# Altium footprint library PcbLib1.PcbLib: 29 footprints (part 2 of 2)
Each footprint in its own frame and in the unit in brackets; x right, y up, seen from the top. Pads: shape width x height; smd on the part's side, far side on the other; paste and mask are expansions set on the pad; w line width, h text height; cw(c..) or ccw(c..) is an arc to the next point about the centre after c.
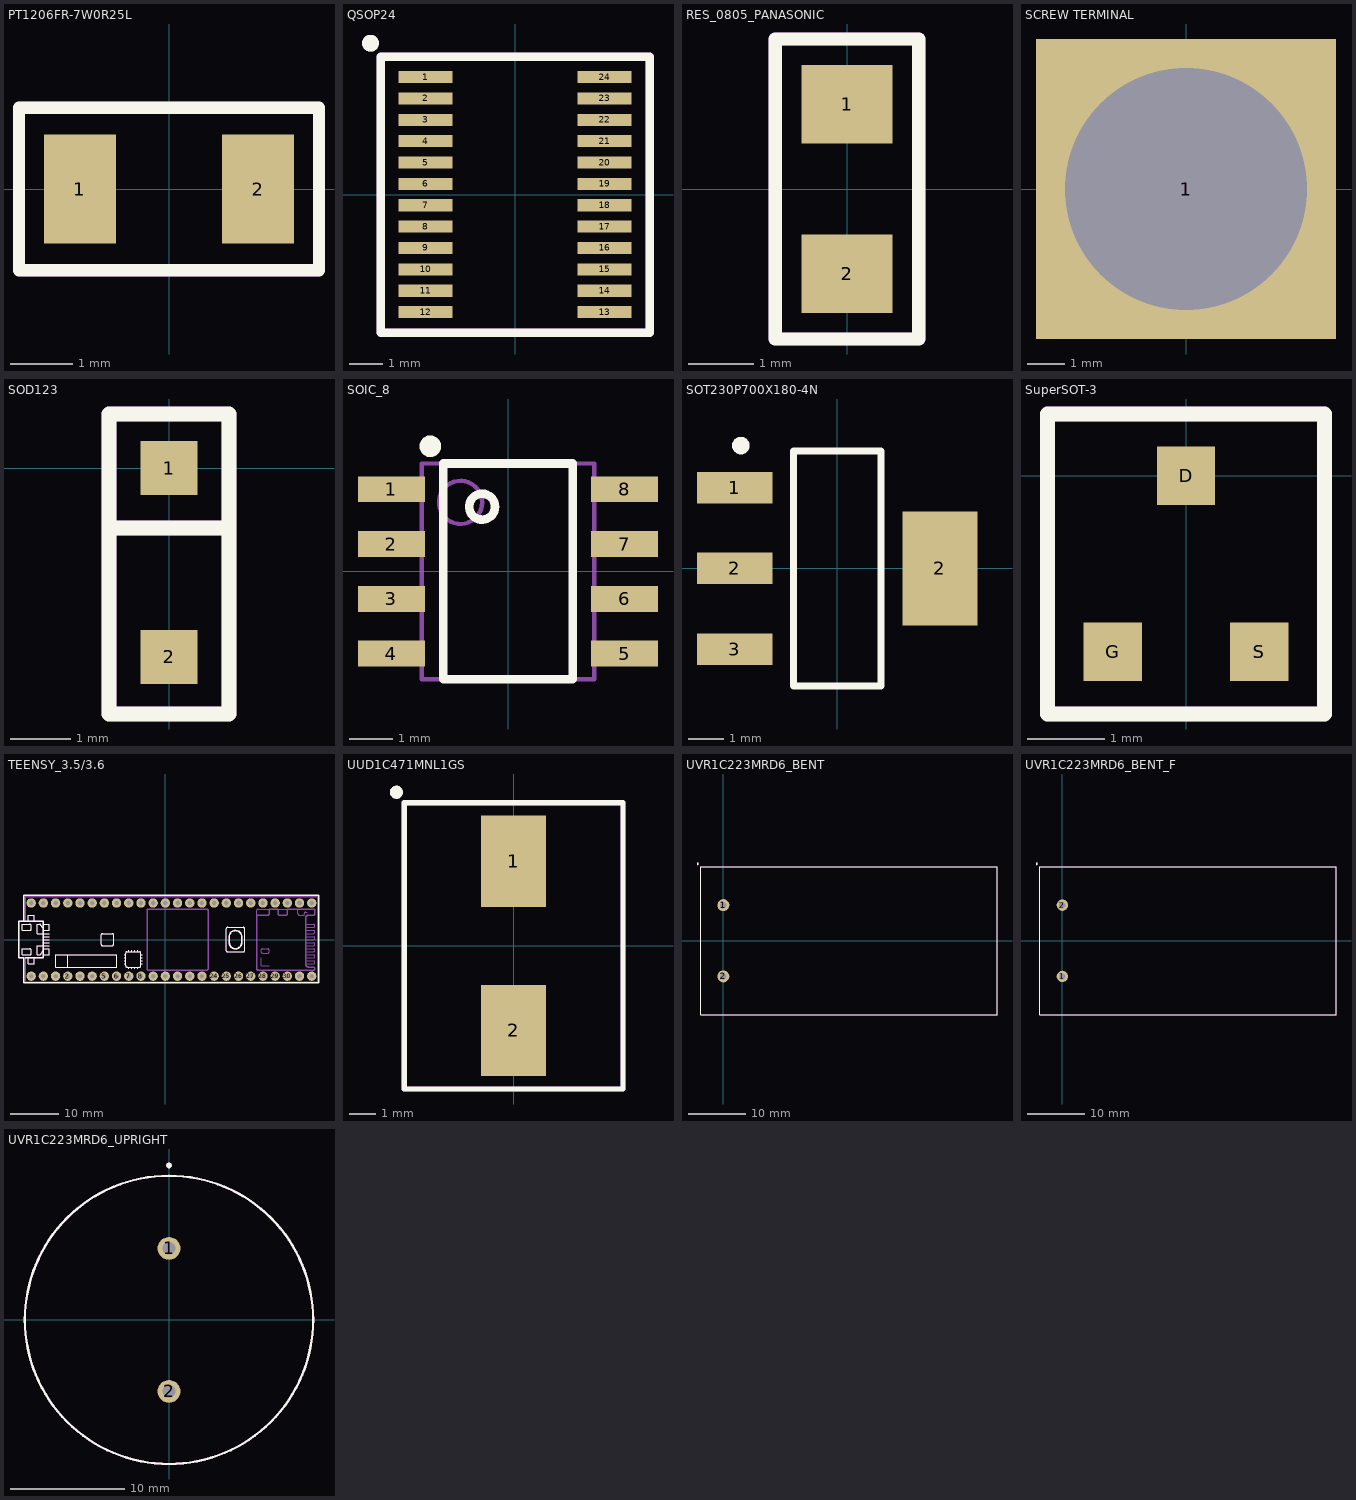
[diagram p1: the footprints below, top view; thin cyan lines are the x and y axes]

## PT1206FR-7W0R25L [mm]
height 0.55
pads (2):
  rect 1.15x1.75 smd mask+0.06: 1(-1.425,0) 2(1.425,0)
Top Overlay:
  lines w0.2: -2.4,-1.3 -2.4,1.3 2.4,1.3 2.4,-1.3 -2.4,-1.3
Mechanical 16:
  lines w0.2: -2.4,-1.3 -2.4,1.3 2.4,1.3 2.4,-1.3 -2.4,-1.3
  text ".Designator" at -1.246,-0.413 h1
3D body "PT1206FR-7W0R25L.step": height 0.55, standoff 0, extent -1.6,-0.85 1.6,0.85

## QSOP24 [mm]
pads (24):
  rect 1.6x0.36 smd mask+0.06: 1(-2.66,3.492) 2(-2.66,2.857) 3(-2.66,2.222) 4(-2.66,1.587) 5(-2.66,0.953) 6(-2.66,0.318) 7(-2.66,-0.318) 8(-2.66,-0.953) 9(-2.66,-1.587) 10(-2.66,-2.222) 11(-2.66,-2.857) 12(-2.66,-3.492) 13(2.66,-3.492) 14(2.66,-2.857) 15(2.66,-2.222) 16(2.66,-1.587) 17(2.66,-0.953) 18(2.66,-0.318) 19(2.66,0.318) 20(2.66,0.953) 21(2.66,1.587) 22(2.66,2.222) 23(2.66,2.857) 24(2.66,3.492)
Top Overlay:
  circle w0.25: c-4.3,4.5 r0.125
  lines w0.254: -4,-4.1 4,-4.1 4,4.1 -4,4.1 -4,-4.1
Mechanical 16:
  circle w0.25: c-4.3,4.5 r0.125
  lines w0.254: -4,-4.1 4,-4.1 4,4.1 -4,4.1 -4,-4.1
  text ".Designator" at -1.346,-0.538 h1.52

## RES_0805_PANASONIC [mm]
pads (2):
  rect 1.4x1.2 smd mask+0.06: 1(0,1.3) 2(0,-1.3)
Top Overlay:
  lines w0.2: -1.1,-2.3 -1.1,2.3 1.1,2.3 1.1,-2.3 -1.1,-2.3
Mechanical 16:
  lines w0.2: -1.1,-2.3 -1.1,2.3 1.1,2.3 1.1,-2.3 -1.1,-2.3
  text ".Designator" at 0.513,-0.946 h1

## SCREW TERMINAL [mm]
pads (1):
  rect 8x8 hole 6.45 mask+0.06: 1(0,0)

## SOD123 [mm]
pads (2):
  rect 0.95x0.9 smd mask+0.06: 1(0,0) 2(0,-3.15)
Top Overlay:
  lines w0.254: -0.9,-1 0.9,-1 ; -1,-4.1 -1,0.9 1,0.9 1,-4.1 -1,-4.1
Mechanical 16:
  lines w0.254: -0.9,-1 0.9,-1 ; -1,-4.1 -1,0.9 1,0.9 1,-4.1 -1,-4.1
  text ".Designator" at 0.413,-3.346 h1

## SOIC_8 [mm] "SOIC, 8-Leads, Body 4.91x3.90mm, Pitch 1.27mm, IPC Medium Density"
height 1.75
pads (8):
  rect 1.55x0.6 smd mask+0.06: 1(-2.7,1.905) 2(-2.7,0.635) 3(-2.7,-0.635) 4(-2.7,-1.905) 5(2.7,-1.905) 6(2.7,-0.635) 7(2.7,0.635) 8(2.7,1.905)
Top Overlay:
  circle w0.25: c-1.8,2.9 r0.125
  circle w0.2: c-0.6,1.5 r0.3
  lines w0.2: -1.5,-2.5 1.5,-2.5 1.5,2.5 -1.5,2.5 -1.5,-2.5
Mechanical 16:
  circle w0.1: c-1.1,1.6 r0.5
  lines w0.1: -2,-2.5 -2,2.5 2,2.5 2,-2.5 -2,-2.5
  text ".Designator" at -1.446,-1.046 h1.5
3D body "SOIC_8.step": height 1.75, standoff 0, extent -2.997,-2.5 2.997,2.5

## SOT230P700X180-4N [mm] "SOT223, 4-Leads, Body 6.50x7.00mm (avg), Pitch 2.30mm, IPC Medium Density"
height 1.8
pads (4):
  rect 2.15x0.9 smd mask+0.06: 1(-2.925,2.3) 2(-2.925,0) 3(-2.925,-2.3)
  rect 2.15x3.25 smd mask+0.06: 2(2.925,0)
Top Overlay:
  circle w0.25: c-2.75,3.5 r0.125
  lines w0.2: -1.25,-3.35 -1.25,3.35 1.25,3.35 1.25,-3.35 -1.25,-3.35
3D body "SOT230P700X180-4N.step": height 1.8, standoff 0, extent -3.5,-3.35 3.5,3.35

## SuperSOT-3 [mm] "SuperSOT-3"
pads (3):
  rect 0.76x0.76 smd mask+0.06: D(0,0) G(-0.95,-2.29) S(0.95,-2.29)
Top Overlay:
  lines w0.2: -1.8,-3.1 -1.8,0.8 1.8,0.8 1.8,-3.1 -1.8,-3.1
Mechanical 16:
  lines w0.2: -1.8,-3.1 -1.8,0.8 1.8,0.8 1.8,-3.1 -1.8,-3.1
  text ".Designator" at 0.413,-2.246 h1

## TEENSY_3.5/3.6 [mm]
pads (48):
  round 1.95 / inner round 1.473 / far side round 1.473 hole 0.95 mask+0.06: 0/RX(-25.4,-7.62) 1/TX(-22.86,-7.62) 2(-20.32,-7.62) 3/CANTX(-17.78,-7.62) 3V3(7.62,-7.62) 3V3_LO(-22.86,7.62) 4/CANRX(-15.24,-7.62) 5(-12.7,-7.62) 6(-10.16,-7.62) 7(-7.62,-7.62) 8(-5.08,-7.62) 9/CS(-2.54,-7.62) 10/CS(0,-7.62) 11/MOSI(2.54,-7.62) 12/MISO(5.08,-7.62) 13/SCK(5.08,7.62) 14/A0(2.54,7.62) 15/A1(0,7.62) 16/A2(-2.54,7.62) 17/A3(-5.08,7.62) 18/A4/SDA(-7.62,7.62) 19/A5/SCL(-10.16,7.62) 20/A6(-12.7,7.62) 21/A7(-15.24,7.62) 21/DAC0(12.7,7.62) 22/A8(-17.78,7.62) 23/A9(-20.32,7.62) 24(10.16,-7.62) 25(12.7,-7.62) 26(15.24,-7.62) 27(17.78,-7.62) 28(20.32,-7.62) 29(22.86,-7.62) 30(25.4,-7.62) 31/A12(27.94,-7.62) 32/A13(30.48,-7.62) 33/A14(30.48,7.62) 34/A15(27.94,7.62) 35/A16(25.4,7.62) 36/A17(22.86,7.62) 37/A18(20.32,7.62) 38/A19(17.78,7.62) 39/A20(15.24,7.62) A22/DAC1(10.16,7.62) AGND(-25.4,7.62) GND(-27.94,-7.62) GND2(7.62,7.62) VIN(-27.94,7.62)
Top Overlay:
  lines w0.127: -28.575,-3.81 -28.575,-5.08 -27.305,-5.08 -27.305,-3.81 ; -28.575,3.81 -28.575,5.08 -27.305,5.08 -27.305,3.81 ; -25.4,-3.175 -24.13,-3.175 -24.13,-1.905 -25.4,-1.905 ; -25.4,-2.222 -25.941,-3.034 cw(c-26.205,-2.857) -26.205,-3.175 -26.67,-3.175 -26.67,-1.27 -25.4,-1.27 -24.13,-1.27 ; -25.4,-0.635 -24.13,-0.635 ; -25.4,0 -24.13,0 ; -25.4,0.635 -24.13,0.635 ; -25.4,1.905 -24.13,1.905 -24.13,3.175 -25.4,3.175 ; -25.4,2.222 -25.941,3.034 ccw(c-26.205,2.857) -26.205,3.175 -26.67,3.175 -26.67,1.27 -25.4,1.27 -24.13,1.27 ; -8.572,-5.08 -8.255,-5.08 ; -8.572,-4.445 -8.255,-4.445 ; -8.572,-3.81 -8.255,-3.81 ; -8.572,-3.175 -8.255,-3.175 ; -7.62,-6.032 -7.62,-5.715 ; -7.62,-2.222 -7.62,-2.54 ; -6.985,-6.032 -6.985,-5.715 ; -6.985,-2.222 -6.985,-2.54 ; -6.35,-6.032 -6.35,-5.715 ; -6.35,-2.222 -6.35,-2.54 ; -5.715,-6.032 -5.715,-5.715 ; -5.715,-2.222 -5.715,-2.54 ; -4.763,-5.08 -5.08,-5.08 ; -4.763,-4.445 -5.08,-4.445 ; -4.763,-3.81 -5.08,-3.81 ; -4.763,-3.175 -5.08,-3.175 ; -20.32,-5.715 -10.16,-5.715 -10.16,-3.175 -20.32,-3.175 ; -20.32,-5.715 -22.86,-5.715 -22.86,-3.175 -20.32,-3.175 ; -20.32,-5.715 -20.32,-3.175 ; -8.255,-5.08 -8.255,-4.445 ; -8.255,-5.08 -8.255,-5.461 ccw(c-8.001,-5.461) -8.001,-5.715 -7.62,-5.715 ; -8.255,-4.445 -8.255,-3.81 ; -8.255,-3.81 -8.255,-3.175 ; -8.255,-3.175 -8.255,-2.794 cw(c-8.001,-2.794) -8.001,-2.54 -7.62,-2.54 ; -7.62,-5.715 -6.985,-5.715 ; -7.62,-2.54 -6.985,-2.54 ; -6.985,-5.715 -6.35,-5.715 ; -6.985,-2.54 -6.35,-2.54 ; -6.35,-5.715 -5.715,-5.715 ; -6.35,-2.54 -5.715,-2.54 ; -5.715,-5.715 -5.334,-5.715 ccw(c-5.334,-5.461) -5.08,-5.461 -5.08,-5.08 ; -5.715,-2.54 -5.334,-2.54 cw(c-5.334,-2.794) -5.08,-2.794 -5.08,-3.175 ; -5.08,-5.08 -5.08,-4.445 ; -5.08,-4.445 -5.08,-3.81 ; -5.08,-3.81 -5.08,-3.175 ; -29.845,-3.175 -28.258,-3.175 ccw(c-28.258,-2.857) -27.94,-2.857 -27.94,-2.222 ccw(c-28.258,-2.222) -28.258,-1.905 -29.845,-1.905 -29.845,-3.175 ; -29.845,1.905 -28.258,1.905 ccw(c-28.258,2.222) -27.94,2.222 -27.94,2.857 ccw(c-28.258,2.857) -28.258,3.175 -29.845,3.175 -29.845,1.905 ; -13.335,-1.016 ccw(c-13.081,-1.016) -13.081,-1.27 -11.049,-1.27 ccw(c-11.049,-1.016) -10.795,-1.016 -10.795,1.016 ccw(c-11.049,1.016) -11.049,1.27 -13.081,1.27 ccw(c-13.081,1.016) -13.335,1.016 -13.335,-1.016 ; 12.7,-2.286 ccw(c12.954,-2.286) 12.954,-2.54 16.256,-2.54 ccw(c16.256,-2.286) 16.51,-2.286 16.51,2.286 ccw(c16.256,2.286) 16.256,2.54 12.954,2.54 ccw(c12.954,2.286) 12.7,2.286 12.7,-2.286
  lines w0.305: -29.21,-3.81 -28.575,-3.81 -27.305,-3.81 -25.4,-3.81 -25.4,-3.175 -25.4,-2.222 -25.4,-1.905 -25.4,-1.27 -25.4,-0.635 -25.4,0 -25.4,0.635 -25.4,1.27 -25.4,1.905 -25.4,2.222 -25.4,3.175 -25.4,3.81 -27.305,3.81 -28.575,3.81 -29.5,3.81 -29.5,9.25 -14.33,9.25 16.15,9.25 32,9.25 32,-9 -29.5,-9 -29.5,-3.81 -30.48,-3.81 -30.48,3.81 -29.21,3.81 ; 13.335,-0.635 ccw(c14.605,-0.635) 14.605,-1.905 ccw(c14.605,-0.635) 15.875,-0.635 15.875,0.635 ccw(c14.605,0.635) 14.605,1.905 ccw(c14.605,0.635) 13.335,0.635 13.335,-0.635
Mechanical 16:
  drawing of 235 lines, arcs and shapes, not listed
  text "TEENSY" at 2.699,1.111 h2.76
  text "3.6" at 2.699,-1.111 h2.76

## UUD1C471MNL1GS [mm] "UUD1C471MNL1GS"
pads (2):
  rect 2.5x3.5 smd mask+0.06: 1(0,3.25) 2(0,-3.25)
Top Overlay:
  circle w0.25: c-4.5,5.9 r0.125
  lines w0.2: -4.2,-5.5 4.2,-5.5 4.2,5.5 -4.2,5.5 -4.2,-5.5
Mechanical 16:
  circle w0.25: c-4.5,5.9 r0.125
  lines w0.2: -4.2,-5.5 4.2,-5.5 4.2,5.5 -4.2,5.5 -4.2,-5.5
  text ".Designator" at 0.738,-0.946 h1.52

## UVR1C223MRD6_BENT [mm] "UVR1C223MRD6"
pads (2):
  round 2.1 hole 1.1 mask+0.06: 1(0,6.25) 2(0,-6.25)
Top Overlay:
  circle w0.2: c-4.5,13.5 r0.125
  lines w0.2: -4,-13 48,-13 48,13 -4,13 -4,-13
Mechanical 16:
  circle w0.2: c-4.5,13.5 r0.125
  lines w0.2: -4,-13 48,-13 48,13 -4,13 -4,-13
  text ".Designator" at 12.254,-1.488 h1.52
3D body: height 25, standoff 0, extent 7,-12.495 47,12.495

## UVR1C223MRD6_BENT_F [mm] "UVR1C223MRD6"
pads (2):
  round 2 hole 1.1 mask+0.06: 1(0,-6.25) 2(0,6.25)
Top Overlay:
  circle w0.2: c-4.5,13.5 r0.125
  lines w0.2: -4,-13 -4,13 48,13 48,-13 -4,-13
Mechanical 16:
  circle w0.2: c-4.5,13.5 r0.125
  lines w0.2: -4,-13 -4,13 48,13 48,-13 -4,-13
  text ".Designator" at 12.254,-1.488 h1.52
3D body: height 25, standoff 0, extent 7,-12.495 47,12.495

## UVR1C223MRD6_UPRIGHT [mm] "UVR1C223MRD6"
pads (2):
  round 2 hole 1.1 mask+0.06: 1(0,6.25) 2(0,-6.25)
Top Overlay:
  circle w0.25: c0,13.5 r0.125
  circle w0.2: c0,0 r12.6
Mechanical 16:
  circle w0.25: c0,13.5 r0.125
  circle w0.2: c0,0 r12.6
  text ".Designator" at -2.746,-0.638 h1.52
3D body: height 40, standoff 0, extent -12.5,-12.495 12.5,12.495